# EAGLE library part LTC4117 (library pixhawk2)
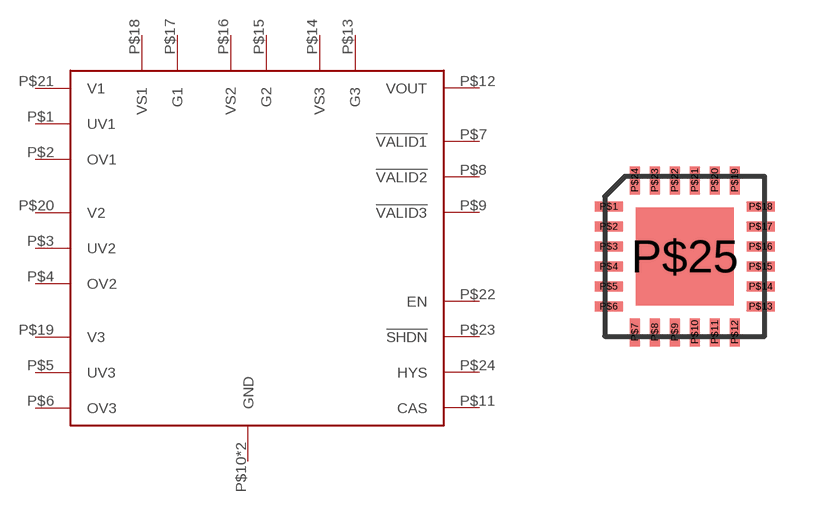
[diagram p90: symbol with the pads of MO-220; footprint MO-220]

Designator prefix -

## LTC4117  [MO-220]
P$1  UV1
P$2  OV1
P$3  UV2
P$4  OV2
P$5  UV3
P$6  OV3
P$7  !VALID1
P$8  !VALID2
P$9  !VALID3
P$10  GND
P$11  CAS
P$12  VOUT
P$13  G3
P$14  VS3
P$15  G2
P$16  VS2
P$17  G1
P$18  VS1
P$19  V3
P$20  V2
P$21  V1
P$22  EN
P$23  !SHDN
P$24  HYS
P$25  GND

## Footprint MO-220 (pad centres in mm)
JEDEC MO-220, aka LTC UF package
smd 0.7 x 0.25: P$1 -1.9,1.25; P$2 -1.9,0.75; P$3 -1.9,0.25; P$4 -1.9,-0.25; P$5 -1.9,-0.75; P$6 -1.9,-1.25; P$13 1.9,-1.25; P$14 1.9,-0.75; P$15 1.9,-0.25; P$16 1.9,0.25; P$17 1.9,0.75; P$18 1.9,1.25
smd 0.25 x 0.7: P$7 -1.25,-1.9; P$8 -0.75,-1.9; P$9 -0.25,-1.9; P$10 0.25,-1.9; P$11 0.75,-1.9; P$12 1.25,-1.9; P$19 1.25,1.9; P$20 0.75,1.9; P$21 0.25,1.9; P$22 -0.25,1.9; P$23 -0.75,1.9; P$24 -1.25,1.9
smd 2.45 x 2.45: P$25 0,0